# EAGLE library part 74LCX16245 (library parts)
Low Voltage 16-bit Bidirection Transceiver. 3.3V device with 5V tolerant I/O.
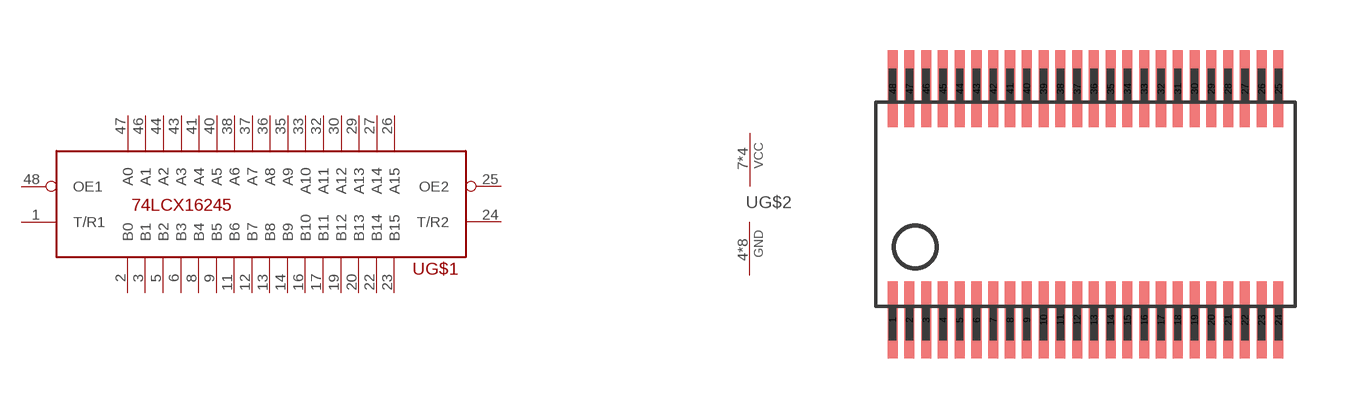
[diagram p6: symbol with the pads of TSSOP-48; footprint TSSOP-48]

Designator prefix -; gates G$1=74LCX16245 G$2=PWRN

## 74LCX16245  [TSSOP-48]
1  G$1:T/R1
2  G$1:B0
3  G$1:B1
4  G$2:GND  pwr
5  G$1:B2
6  G$1:B3
7  G$2:VCC  pwr
8  G$1:B4
9  G$1:B5
10  G$2:GND  pwr
11  G$1:B6
12  G$1:B7
13  G$1:B8
14  G$1:B9
15  G$2:GND  pwr
16  G$1:B10
17  G$1:B11
18  G$2:VCC  pwr
19  G$1:B12
20  G$1:B13
21  G$2:GND  pwr
22  G$1:B14
23  G$1:B15
24  G$1:T/R2
25  G$1:OE2
26  G$1:A15
27  G$1:A14
28  G$2:GND  pwr
29  G$1:A13
30  G$1:A12
31  G$2:VCC  pwr
32  G$1:A11
33  G$1:A10
34  G$2:GND  pwr
35  G$1:A9
36  G$1:A8
37  G$1:A7
38  G$1:A6
39  G$2:GND  pwr
40  G$1:A5
41  G$1:A4
42  G$2:VCC  pwr
43  G$1:A3
44  G$1:A2
45  G$2:GND  pwr
46  G$1:A1
47  G$1:A0
48  G$1:OE1

## Footprint TSSOP-48 (pad centres in mm)
smd 0.3 x 2.3: 1 -5.75,-3.45; 2 -5.25,-3.45; 3 -4.75,-3.45; 4 -4.25,-3.45; 5 -3.75,-3.45; 6 -3.25,-3.45; 7 -2.75,-3.45; 8 -2.25,-3.45; 9 -1.75,-3.45; 10 -1.25,-3.45; 11 -0.75,-3.45; 12 -0.25,-3.45; 13 0.25,-3.45; 14 0.75,-3.45; 15 1.25,-3.45; 16 1.75,-3.45; 17 2.25,-3.45; 18 2.75,-3.45; 19 3.25,-3.45; 20 3.75,-3.45; 21 4.25,-3.45; 22 4.75,-3.45; 23 5.25,-3.45; 24 5.75,-3.45; 25 5.75,3.45; 26 5.25,3.45; 27 4.75,3.45; 28 4.25,3.45; 29 3.75,3.45; 30 3.25,3.45; 31 2.75,3.45; 32 2.25,3.45; 33 1.75,3.45; 34 1.25,3.45; 35 0.75,3.45; 36 0.25,3.45; 37 -0.25,3.45; 38 -0.75,3.45; 39 -1.25,3.45; 40 -1.75,3.45; 41 -2.25,3.45; 42 -2.75,3.45; 43 -3.25,3.45; 44 -3.75,3.45; 45 -4.25,3.45; 46 -4.75,3.45; 47 -5.25,3.45; 48 -5.75,3.45